# Altium footprint library P_STM32_WB55.PcbLib: 1 footprints
Each footprint in its own frame and in the unit in brackets; x right, y up, seen from the top. Pads: shape width x height; smd on the part's side, far side on the other; paste and mask are expansions set on the pad; w line width, h text height; cw(c..) or ccw(c..) is an arc to the next point about the centre after c.
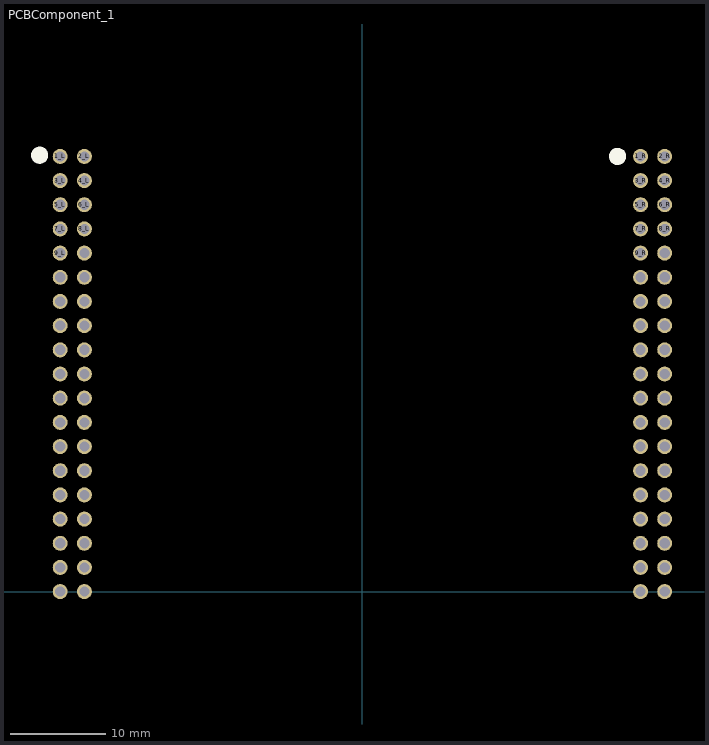
[diagram p0: the footprint, top view; thin cyan lines are the x and y axes]

## PCBComponent_1 [mil]
pads (76):
  round 62 / inner round 60 / far side round 62 hole 42 paste-99999 mask+0: 1_L(-1250,1800) 1_R(1150,1800) 2_L(-1150,1800) 2_R(1250,1800) 3_L(-1250,1700) 3_R(1150,1700) 4_L(-1150,1700) 4_R(1250,1700) 5_L(-1250,1600) 5_R(1150,1600) 6_L(-1150,1600) 6_R(1250,1600) 7_L(-1250,1500) 7_R(1150,1500) 8_L(-1150,1500) 8_R(1250,1500) 9_L(-1250,1400) 9_R(1150,1400) 10_L(-1150,1400) 10_R(1250,1400) 11_L(-1250,1300) 11_R(1150,1300) 12_L(-1150,1300) 12_R(1250,1300) 13_L(-1250,1200) 13_R(1150,1200) 14_L(-1150,1200) 14_R(1250,1200) 15_L(-1250,1100) 15_R(1150,1100) 16_L(-1150,1100) 16_R(1250,1100) 17_L(-1250,1000) 17_R(1150,1000) 18_L(-1150,1000) 18_R(1250,1000) 19_L(-1250,900) 19_R(1150,900) 20_L(-1150,900) 20_R(1250,900) 21_L(-1250,800) 21_R(1150,800) 22_L(-1150,800) 22_R(1250,800) 23_L(-1250,700) 23_R(1150,700) 24_L(-1150,700) 24_R(1250,700) 25_L(-1250,600) 25_R(1150,600) 26_L(-1150,600) 26_R(1250,600) 27_L(-1250,500) 27_R(1150,500) 28_L(-1150,500) 28_R(1250,500) 29_L(-1250,400) 29_R(1150,400) 30_L(-1150,400) 30_R(1250,400) 31_L(-1250,300) 31_R(1150,300) 32_L(-1150,300) 32_R(1250,300) 33_L(-1250,200) 33_R(1150,200) 34_L(-1150,200) 34_R(1250,200) 35_L(-1250,100) 35_R(1150,100) 36_L(-1150,100) 36_R(1250,100) 37_L(-1250,0) 37_R(1150,0) 38_L(-1150,0) 38_R(1250,0)
Top Overlay:
  circle w39.37: c1055,1800 r15.81
  circle w39.37: c-1335,1805 r15.81